# Altium footprint library PcbLib1.PcbLib: 27 footprints (part 4 of 4)
Each footprint in its own frame and in the unit in brackets; x right, y up, seen from the top. Pads: shape width x height; smd on the part's side, far side on the other; paste and mask are expansions set on the pad; w line width, h text height; cw(c..) or ccw(c..) is an arc to the next point about the centre after c.
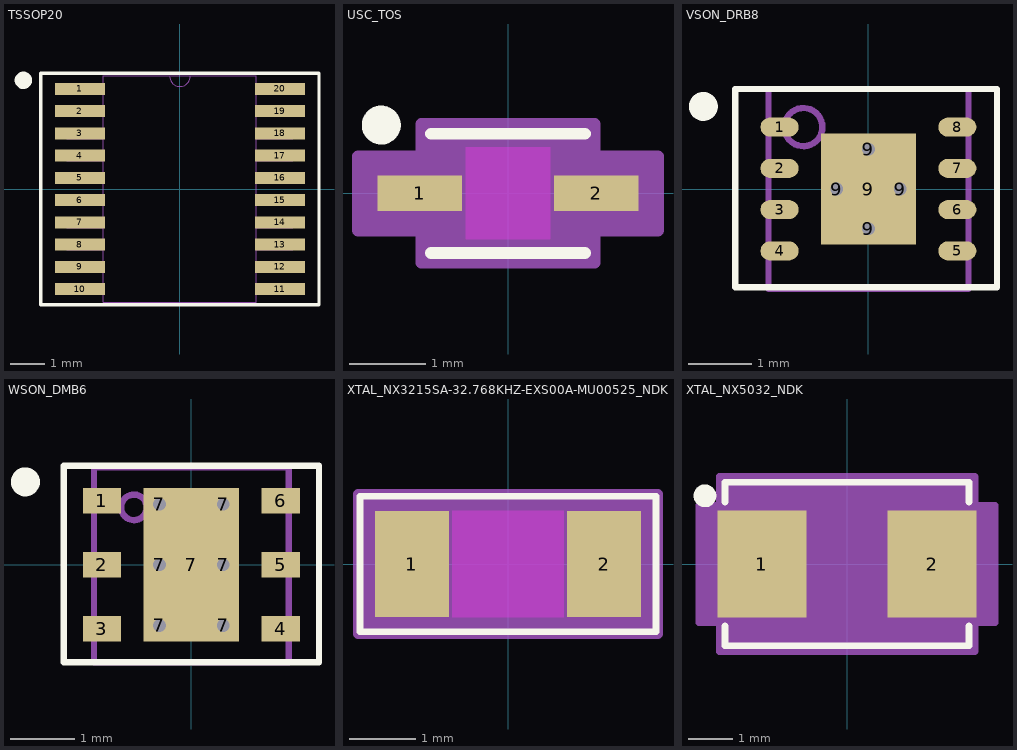
[diagram p3: the footprints below, top view; thin cyan lines are the x and y axes]

## TSSOP20 [mm]
pads (20):
  rect 1.462x0.355 smd paste+0 mask+0: 1(-2.921,2.925) 2(-2.921,2.275) 3(-2.921,1.625) 4(-2.921,0.975) 5(-2.921,0.325) 6(-2.921,-0.325) 7(-2.921,-0.975) 8(-2.921,-1.625) 9(-2.921,-2.275) 10(-2.921,-2.925) 11(2.921,-2.925) 12(2.921,-2.275) 13(2.921,-1.625) 14(2.921,-0.975) 15(2.921,-0.325) 16(2.921,0.325) 17(2.921,0.975) 18(2.921,1.625) 19(2.921,2.275) 20(2.921,2.925)
Top Overlay:
  circle w0.254: c-4.572,3.175 r0.127
  lines w0.1: -4.064,-3.375 4.064,-3.375 4.064,3.375 -4.064,3.375 -4.064,-3.375
Mechanical 13:
  lines w0: -0.305,3.302 ccw(c0,3.302) 0.305,3.302
  lines w0.025: -3.302,-3.077 -3.302,-2.773 -2.235,-2.773 -2.235,-3.077 -3.302,-3.077 ; -3.302,-2.427 -3.302,-2.123 -2.235,-2.123 -2.235,-2.427 -3.302,-2.427 ; -3.302,-1.777 -3.302,-1.473 -2.235,-1.473 -2.235,-1.777 -3.302,-1.777 ; -3.302,-1.127 -3.302,-0.823 -2.235,-0.823 -2.235,-1.127 -3.302,-1.127 ; -3.302,-0.477 -3.302,-0.173 -2.235,-0.173 -2.235,-0.477 -3.302,-0.477 ; -3.302,0.173 -3.302,0.477 -2.235,0.477 -2.235,0.173 -3.302,0.173 ; -3.302,0.823 -3.302,1.127 -2.235,1.127 -2.235,0.823 -3.302,0.823 ; -3.302,1.473 -3.302,1.777 -2.235,1.777 -2.235,1.473 -3.302,1.473 ; -3.302,2.123 -3.302,2.427 -2.235,2.427 -2.235,2.123 -3.302,2.123 ; -3.302,2.773 -3.302,3.077 -2.235,3.077 -2.235,2.773 -3.302,2.773 ; -2.235,-3.302 2.235,-3.302 2.235,3.302 -2.235,3.302 -2.235,-3.302 ; 2.235,-3.077 2.235,-2.773 3.302,-2.773 3.302,-3.077 2.235,-3.077 ; 2.235,-2.427 2.235,-2.123 3.302,-2.123 3.302,-2.427 2.235,-2.427 ; 2.235,-1.777 2.235,-1.473 3.302,-1.473 3.302,-1.777 2.235,-1.777 ; 2.235,-1.127 2.235,-0.823 3.302,-0.823 3.302,-1.127 2.235,-1.127 ; 2.235,-0.477 2.235,-0.173 3.302,-0.173 3.302,-0.477 2.235,-0.477 ; 2.235,0.173 2.235,0.477 3.302,0.477 3.302,0.173 2.235,0.173 ; 2.235,0.823 2.235,1.127 3.302,1.127 3.302,0.823 2.235,0.823 ; 2.235,1.473 2.235,1.777 3.302,1.777 3.302,1.473 2.235,1.473 ; 2.235,2.123 2.235,2.427 3.302,2.427 3.302,2.123 2.235,2.123 ; 2.235,2.773 2.235,3.077 3.302,3.077 3.302,2.773 2.235,2.773
  text "*" at -2.172,1.956 h1.27
3D body "TSSOP20.step": height 1.2, standoff 0, extent -3.302,-3.302 3.302,3.302

## USC_TOS [mm]
pads (2):
  rect 1.1x0.46 smd paste+0 mask+0: 1(-1.15,0) 2(1.15,0)
Top Overlay:
  circle w0.254: c-1.651,0.889 r0.127
  lines w0.152: -1.002,-0.777 1.002,-0.777 ; -1.002,0.777 1.002,0.777
Keep-Out Layer:
  region: -0.549,-0.599 -0.549,0.599 0.549,0.599 0.549,-0.599
Mechanical 13:
  lines w0.025: -0.875,-0.325 -0.55,-0.65 ; -0.875,0.325 -0.55,0.65 ; -1.35,-0.2 -1.35,0.2 -0.875,0.2 -0.875,-0.2 -1.35,-0.2 ; -0.875,-0.65 0.875,-0.65 0.875,0.65 -0.875,0.65 -0.875,-0.65 ; 0.875,-0.2 0.875,0.2 1.35,0.2 1.35,-0.2 0.875,-0.2
  text "*" at -0.938,-0.635 h1.27
Mechanical 15:
  region: -1.129,-0.484 -1.954,-0.484 -1.954,0.484 -1.129,0.484 -1.129,0.904 1.129,0.904 1.129,0.484 1.954,0.484 1.954,-0.484 1.129,-0.484 1.129,-0.904 -1.129,-0.904
  lines w0.152: -1.954,-0.484 -1.954,0.484 -1.129,0.484 -1.129,0.904 1.129,0.904 1.129,0.484 1.954,0.484 1.954,-0.484 1.129,-0.484 1.129,-0.904 -1.129,-0.904 -1.129,-0.484 -1.954,-0.484
3D body "USC_TOS.step": height 1.1, standoff 0, extent -1.35,-0.65 1.35,0.65

## VSON_DRB8 [mm]
pads (13):
  oval 0.6x0.3 smd paste-0.102 mask+0.051: 1(-1.4,0.975) 2(-1.4,0.325) 3(-1.4,-0.325) 4(-1.4,-0.975) 5(1.4,-0.975) 6(1.4,-0.325) 7(1.4,0.325) 8(1.4,0.975)
  round 0.5 / inner round 1.524 / far side round 0.5 hole 0.2 paste-0.25 mask+0.051: 9(-0.5,0) 9(0,0.625) 9(0.5,0)
  round 0.5 hole 0.2 paste-0.25 mask+0.051: 9(0,-0.625)
  rect 1.5x1.75 smd paste-0.875 mask+0.051: 9(0,0)
Top Overlay:
  circle w0.254: c-2.6,1.3 r0.1
  lines w0.1: -2.1,-1.55 2.025,-1.55 2.025,1.575 -2.1,1.575 -2.1,-1.55
Top Paste:
  region: -0.691,0.793 -0.691,-0.793 0.692,-0.793 0.692,0.793
Mechanical 13:
  circle w0.1: c-1.025,0.975 r0.3
  lines w0.1: -1.575,-1.575 1.575,-1.575 1.575,1.575 -1.575,1.575 -1.575,-1.575
3D body "DRB0008A.stp": height 0.77, standoff 0, extent -1.5,-1.5 1.5,1.5

## WSON_DMB6 [mm]
pads (13):
  rect 0.6x0.4 smd paste+0 mask+0.051: 1(-1.4,1) 2(-1.4,0) 3(-1.4,-1) 4(1.4,-1) 5(1.4,0) 6(1.4,1)
  round 0.5 / inner round 1.524 / far side round 0.5 hole 0.2 paste-0.25 mask+0.051: 7(-0.5,-0.95) 7(-0.5,0) 7(-0.5,0.95) 7(0.5,-0.95) 7(0.5,0) 7(0.5,0.95)
  rect 1.5x2.4 smd paste-1.187 mask+0.051: 7(0,0)
Top Overlay:
  circle w0.254: c-2.6,1.3 r0.1
  lines w0.1: -2,-1.525 2,-1.525 2,1.55 -2,1.55 -2,-1.525
Top Paste:
  region: -0.69,-0.1 -0.69,-1.16 0.69,-1.16 0.69,-0.1
  region: -0.69,1.16 -0.69,0.1 0.69,0.1 0.69,1.16
Mechanical 13:
  circle w0.1: c-0.9,0.9 r0.2
  lines w0.1: -1.525,-1.525 -1.525,1.525 1.525,1.525 1.525,-1.525 -1.525,-1.525
3D body "DMB0006A.stp": height 0.8, standoff 0, extent -1.5,-1.5 1.5,1.5

## XTAL_NX3215SA-32.768KHZ-EXS00A-MU00525_NDK [mm]
pads (2):
  rect 1.112x1.6 smd paste+0 mask+0: 1(-1.445,0) 2(1.445,0)
Top Layer keep-out:
  region: -0.838,-0.749 -0.838,0.749 0.838,0.749 0.838,-0.749
Top Overlay:
  lines w0.1: -2.225,-1.016 2.225,-1.016 2.225,1.016 -2.225,1.016 -2.225,-1.016
Keep-Out Layer:
  region: -0.838,-0.8 -0.838,0.8 0.838,0.8 0.838,-0.8
Mechanical 13:
  circle w0: c-1.318,0 r0.076
  lines w0.025: -1.651,-0.8 -1.651,0.8 ; -1.651,-0.8 -0.889,-0.8 -0.889,0.8 -1.651,0.8 ; -1.651,-0.8 1.651,-0.8 ; -1.651,-0.8 -1.651,0.8 ; -1.651,0.8 1.651,0.8 ; 1.651,-0.8 0.889,-0.8 0.889,0.8 1.651,0.8 ; 1.651,-0.8 1.651,0.8 ; 1.651,-0.8 1.651,0.8
Mechanical 15:
  region: 2.255,-1.054 -2.255,-1.054 -2.255,1.054 2.255,1.054
  lines w0.152: -2.255,-1.054 -2.255,1.054 2.255,1.054 2.255,-1.054 -2.255,-1.054
3D body "XTAL_NX3215SA-32768KHZ-EXS00A-MU00525_NDK.step": height 0.89, standoff 0, extent -1.651,-0.8 1.651,0.8

## XTAL_NX5032_NDK [mm]
pads (2):
  rect 2x2.4 smd paste+0 mask+0: 1(-1.9,0) 2(1.9,0)
Top Overlay:
  circle w0.254: c-3.175,1.524 r0.127
  lines w0.152: -2.73,-1.387 -2.73,-1.829 2.73,-1.829 2.73,-1.387 ; -2.73,1.387 -2.73,1.829 2.73,1.829 2.73,1.387
Mechanical 13:
  lines w0: -2.603,-0.749 ccw(c-2.603,0) -2.603,0.749 ; 2.603,-0.749 cw(c2.603,0) 2.603,0.749
  lines w0.025: -2.603,-0.749 -2.603,-1.702 2.603,-1.702 2.603,-0.749 ; -2.603,0.749 -2.603,1.702 2.603,1.702 2.603,0.749 ; -2.603,1.448 -2.349,1.702
  text "*" at -2.286,0.343 h1.27
Mechanical 15:
  region: -2.857,-1.308 -3.315,-1.308 -3.315,1.308 -2.857,1.308 -2.857,1.956 2.857,1.956 2.857,1.308 3.315,1.308 3.315,-1.308 2.857,-1.308 2.857,-1.956 -2.857,-1.956
  lines w0.152: -3.315,-1.308 -3.315,1.308 -2.857,1.308 -2.857,1.956 2.857,1.956 2.857,1.308 3.315,1.308 3.315,-1.308 2.857,-1.308 2.857,-1.956 -2.857,-1.956 -2.857,-1.308 -3.315,-1.308
3D body "XTAL_NX5032GA_NDK.step": height 1.5, standoff 0, extent -2.864,-2.089 2.864,2.089